# Altium footprint library DIP14.PcbLib: 3 footprints
Each footprint in its own frame and in the unit in brackets; x right, y up, seen from the top. Pads: shape width x height; smd on the part's side, far side on the other; paste and mask are expansions set on the pad; w line width, h text height; cw(c..) or ccw(c..) is an arc to the next point about the centre after c.
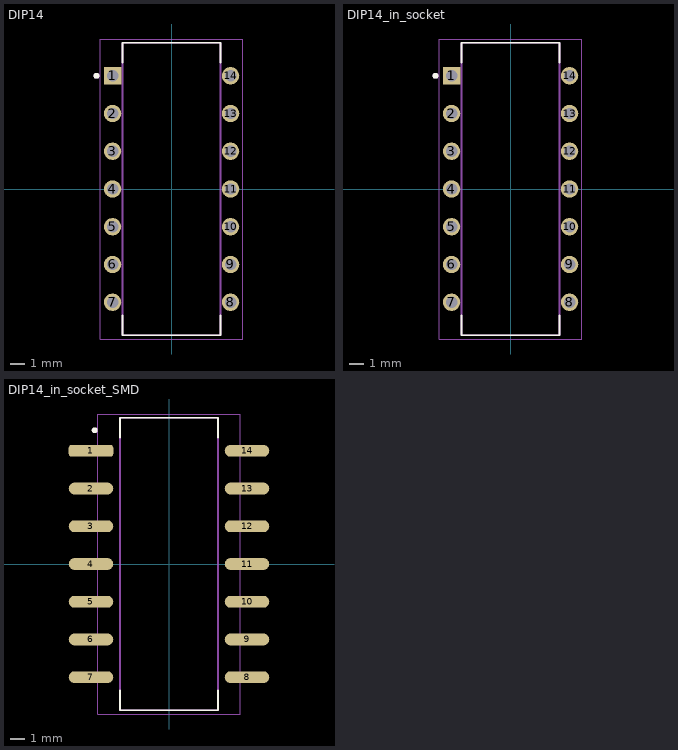
[diagram p0: the footprints below, top view; thin cyan lines are the x and y axes]

## DIP14 [mm]
pads (14):
  rect 1.17x1.17 hole 0.77: 1(-3.97,7.62)
  round 1.17 hole 0.77: 2(-3.97,5.08) 3(-3.97,2.54) 4(-3.97,0) 5(-3.97,-2.54) 6(-3.97,-5.08) 7(-3.97,-7.62) 8(3.97,-7.62) 9(3.97,-5.08) 10(3.97,-2.54) 11(3.97,0) 12(3.97,2.54) 13(3.97,5.08) 14(3.97,7.62)
Top Overlay:
  circle w0.2: c-5.055,7.62 r0.1
  lines w0.127: -3.3,-8.525 -3.3,-9.845 3.3,-9.845 3.3,-8.525 ; -3.3,8.525 -3.3,9.845 3.3,9.845 3.3,8.525
Mechanical 13:
  circle w0.2: c-5.055,7.62 r0.1
  lines w0.127: -3.3,-9.845 3.3,-9.845 3.3,9.845 -3.3,9.845 -3.3,-9.845
Mechanical 15:
  lines w0.05: -4.805,-10.095 4.805,-10.095 4.805,10.095 -4.805,10.095 -4.805,-10.095
3D body "74HCT125-3DMODEL v3.step": height 5.08, standoff -2.4, extent -3.87,-9.845 3.87,9.845

## DIP14_in_socket [mm]
pads (14):
  rect 1.17x1.17 hole 0.77: 1(-3.97,7.62)
  round 1.17 hole 0.77: 2(-3.97,5.08) 3(-3.97,2.54) 4(-3.97,0) 5(-3.97,-2.54) 6(-3.97,-5.08) 7(-3.97,-7.62) 8(3.97,-7.62) 9(3.97,-5.08) 10(3.97,-2.54) 11(3.97,0) 12(3.97,2.54) 13(3.97,5.08) 14(3.97,7.62)
Top Overlay:
  circle w0.2: c-5.055,7.62 r0.1
  lines w0.127: -3.3,-8.525 -3.3,-9.845 3.3,-9.845 3.3,-8.525 ; -3.3,8.525 -3.3,9.845 3.3,9.845 3.3,8.525
Mechanical 13:
  circle w0.2: c-5.055,7.62 r0.1
  lines w0.127: -3.3,-9.845 -3.3,9.845 3.3,9.845 3.3,-9.845 -3.3,-9.845
Mechanical 15:
  lines w0.05: -4.805,-10.095 -4.805,10.095 4.805,10.095 4.805,-10.095 -4.805,-10.095
3D body "DIP-14 W7.62mm IC with Socket.stp": height 7.88, standoff -3.13, extent -5.24,-9.152 4.96,9.153

## DIP14_in_socket_SMD [mm]
pads (14):
  rrect50% 3x0.8 smd: 1(-5.25,7.62)
  oval 3x0.8 smd: 2(-5.25,5.08) 3(-5.25,2.54) 4(-5.25,0) 5(-5.25,-2.54) 6(-5.25,-5.08) 7(-5.25,-7.62) 8(5.25,-7.62) 9(5.25,-5.08) 10(5.25,-2.54) 11(5.25,0) 12(5.25,2.54) 13(5.25,5.08) 14(5.25,7.62)
Top Overlay:
  circle w0.2: c-5,9 r0.1
  lines w0.127: -3.3,-8.525 -3.3,-9.845 3.3,-9.845 3.3,-8.525 ; -3.3,8.525 -3.3,9.845 3.3,9.845 3.3,8.525
Mechanical 13:
  circle w0.2: c-5.055,7.62 r0.1
  lines w0.127: -3.3,-9.845 -3.3,9.845 3.3,9.845 3.3,-9.845 -3.3,-9.845
Mechanical 15:
  lines w0.05: -4.805,-10.095 -4.805,10.095 4.805,10.095 4.805,-10.095 -4.805,-10.095
3D body "DIP-14 W7.62mm IC with Socket.stp": height 7.88, standoff -3.13, extent -5.24,-9.152 4.96,9.153